# EAGLE library part MAX4239 (library Parts for D-DAQ)
High Precision & Accuracy OP Amp
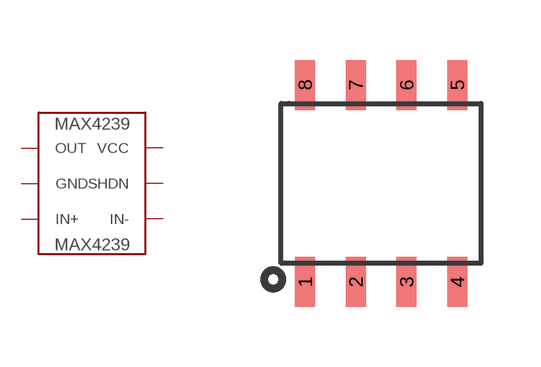
[diagram p11: symbol with the pads of SOT-8; footprint SOT-8]

Designator prefix U

## MAX4239  [SOT-8]
1  SHDN  in
2  IN-  in
3  IN+  in
4  GND  pas
6  OUT  out
7  VCC  pwr

## Footprint SOT-8 (pad centres in mm)
smd 0.5 x 1.25: 1 -1.905,-2.465; 2 -0.635,-2.465; 3 0.635,-2.465; 4 1.905,-2.465; 5 1.905,2.465; 6 0.635,2.465; 7 -0.635,2.465; 8 -1.905,2.465